# EAGLE library part TEXAS_INSTRUMENTS_TLV5618AID (library Upverter Library)
TI-TLV561X_5638-8
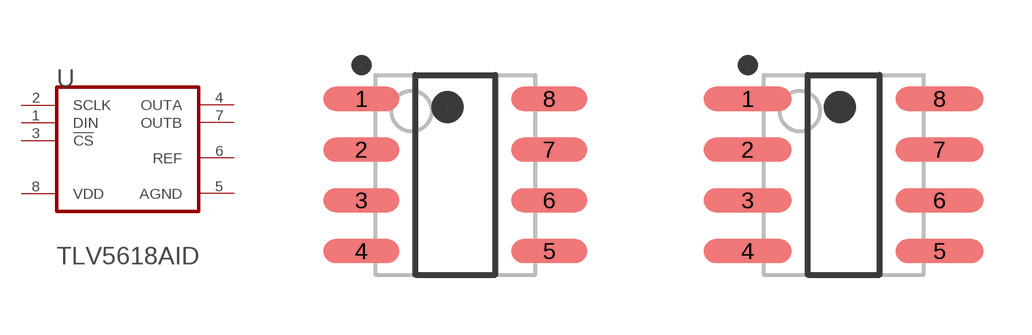
[diagram p0: symbol with the pads of TEXAS_INSTRUMENTS_TLV5618AID_0; footprints TEXAS_INSTRUMENTS_TLV5618AID_0, TEXAS_INSTRUMENTS_TLV5618AID_1]

Designator prefix U

## TEXAS_INSTRUMENTS_TLV5618AIDTEXAS_INSTRUMENTS_TLV5618AID_0_0 (Code__JEDEC: MS-012; Component_Link_1_Description: Manufacturer URL; Component_Link_1_URL: http://www.ti.com/; Component_Link_3_Description: Package Specification; Component_Link_3_URL: http://www.ti.com/litv/pdf/msoi002j; DAC_Channels: 2; DNL_Max__LSB: 1; Datasheet_Version: SLAS230H; INL_Max__LSB: 4; Interface: Serial SPI; MF: Texas Instruments; MPN: TLV5618AID; Mounting_Technology: Surface Mount; Package_Description: 8-Pin Plastic Small Outline, Body 4.9 x 3.9 mm, Pitch 1.27 mm; Package_Version: 4040047-3/M, 06/2011; Power_ConsumptionTypmW: 1.8; Resolution_Bits: 12; SFDRd_B: 72; SNRd_B: 76; Settling_Timeus: 3; Sub_Family: Precision DAC (=<10MSPS); ciiva_ids: 1089365; datasheet: http://www.ti.com/general/docs/lit/getliterature.tsp?genericPartNumber=TLV5618A&fileType=pdf; footprint_variant_name_0: Level C; footprint_variant_name_1: Level B; footprint_variant_name_2: Level A; import_ts: 1521848973; imported: yes; imported_from: vault; package: D8; pin_0_0_1_inside_edge: clock; prefix: U; release_date: 1386925073; rohs: Yes; vault_guid: 013B0FB3-B93C-4793-8784-9A2B0464A527; vault_revision: B618AF77-08DF-4618-A484-169F78FA430F)  [TEXAS_INSTRUMENTS_TLV5618AID_0]
1  DIN  in
2  SCLK  in
3  !CS!  in
4  OUTA  out
5  AGND  pwr
6  REF  in
7  OUTB  out
8  VDD  pwr

## TEXAS_INSTRUMENTS_TLV5618AIDTEXAS_INSTRUMENTS_TLV5618AID_0_1 (Code__JEDEC: MS-012; Component_Link_1_Description: Manufacturer URL; Component_Link_1_URL: http://www.ti.com/; Component_Link_3_Description: Package Specification; Component_Link_3_URL: http://www.ti.com/litv/pdf/msoi002j; DAC_Channels: 2; DNL_Max__LSB: 1; Datasheet_Version: SLAS230H; INL_Max__LSB: 4; Interface: Serial SPI; MF: Texas Instruments; MPN: TLV5618AID; Mounting_Technology: Surface Mount; Package_Description: 8-Pin Plastic Small Outline, Body 4.9 x 3.9 mm, Pitch 1.27 mm; Package_Version: 4040047-3/M, 06/2011; Power_ConsumptionTypmW: 1.8; Resolution_Bits: 12; SFDRd_B: 72; SNRd_B: 76; Settling_Timeus: 3; Sub_Family: Precision DAC (=<10MSPS); ciiva_ids: 1089365; datasheet: http://www.ti.com/general/docs/lit/getliterature.tsp?genericPartNumber=TLV5618A&fileType=pdf; footprint_variant_name_0: Level C; footprint_variant_name_1: Level B; footprint_variant_name_2: Level A; import_ts: 1521848973; imported: yes; imported_from: vault; package: D8; pin_0_0_1_inside_edge: clock; prefix: U; release_date: 1386925073; rohs: Yes; vault_guid: 013B0FB3-B93C-4793-8784-9A2B0464A527; vault_revision: B618AF77-08DF-4618-A484-169F78FA430F)  [TEXAS_INSTRUMENTS_TLV5618AID_1]
Pads as for TEXAS_INSTRUMENTS_TLV5618AID_0

## TEXAS_INSTRUMENTS_TLV5618AIDTEXAS_INSTRUMENTS_TLV5618AID_0_2 (Code__JEDEC: MS-012; Component_Link_1_Description: Manufacturer URL; Component_Link_1_URL: http://www.ti.com/; Component_Link_3_Description: Package Specification; Component_Link_3_URL: http://www.ti.com/litv/pdf/msoi002j; DAC_Channels: 2; DNL_Max__LSB: 1; Datasheet_Version: SLAS230H; INL_Max__LSB: 4; Interface: Serial SPI; MF: Texas Instruments; MPN: TLV5618AID; Mounting_Technology: Surface Mount; Package_Description: 8-Pin Plastic Small Outline, Body 4.9 x 3.9 mm, Pitch 1.27 mm; Package_Version: 4040047-3/M, 06/2011; Power_ConsumptionTypmW: 1.8; Resolution_Bits: 12; SFDRd_B: 72; SNRd_B: 76; Settling_Timeus: 3; Sub_Family: Precision DAC (=<10MSPS); ciiva_ids: 1089365; datasheet: http://www.ti.com/general/docs/lit/getliterature.tsp?genericPartNumber=TLV5618A&fileType=pdf; footprint_variant_name_0: Level C; footprint_variant_name_1: Level B; footprint_variant_name_2: Level A; import_ts: 1521848973; imported: yes; imported_from: vault; package: D8; pin_0_0_1_inside_edge: clock; prefix: U; release_date: 1386925073; rohs: Yes; vault_guid: 013B0FB3-B93C-4793-8784-9A2B0464A527; vault_revision: B618AF77-08DF-4618-A484-169F78FA430F)  [TEXAS_INSTRUMENTS_TLV5618AID_2]
Pads as for TEXAS_INSTRUMENTS_TLV5618AID_0

## Footprint TEXAS_INSTRUMENTS_TLV5618AID_0 (pad centres in mm)
TI-TLV561X_5638-8
smd 1.9 x 0.6: 1 -2.35,1.905; 2 -2.35,0.635; 3 -2.35,-0.635; 4 -2.35,-1.905; 5 2.35,-1.905; 6 2.35,-0.635; 7 2.35,0.635; 8 2.35,1.905

## Footprint TEXAS_INSTRUMENTS_TLV5618AID_1 (pad centres in mm)
TI-TLV561X_5638-8
smd 2.2 x 0.6: 1 -2.4,1.905; 2 -2.4,0.635; 3 -2.4,-0.635; 4 -2.4,-1.905; 5 2.4,-1.905; 6 2.4,-0.635; 7 2.4,0.635; 8 2.4,1.905

## Footprint TEXAS_INSTRUMENTS_TLV5618AID_2 (pad centres in mm)
TI-TLV561X_5638-8
smd 2.5 x 0.7: 1 -2.45,1.905; 2 -2.45,0.635; 3 -2.45,-0.635; 4 -2.45,-1.905; 5 2.45,-1.905; 6 2.45,-0.635; 7 2.45,0.635; 8 2.45,1.905